# Altium schematic symbol library SX867x.SchLib: 1 symbol
Pins are listed as number, name and electrical type; pins without a type are passive.

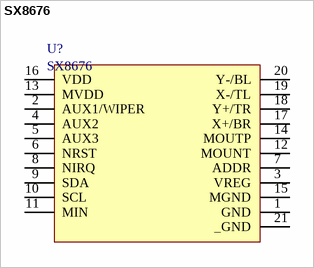
[diagram p0: symbol SX8676]

## SX8676
designator U?
Haptics Enabled Multitouch 4/5-Wire   Resistive Touchscreen Controller with Proximity Sensing; datasheet: http://www.semtech.com/images/datasheet/sx867x.pdf
pins: 1 GND, 2 AUX1/WIPER, 3 VREG, 4 AUX2, 5 AUX3, 6 NRST, 7 ADDR, 8 NIRQ, 9 SDA, 10 SCL, 11 MIN, 12 MOUNT, 13 MVDD, 14 MOUTP, 15 MGND, 16 VDD, 17 X+/BR, 18 Y+/TR, 19 X-/TL, 20 Y-/BL, 21 _GND